# Altium schematic symbol library Transistors.SchLib: 1 symbol
Pins are listed as number, name and electrical type; pins without a type are passive.

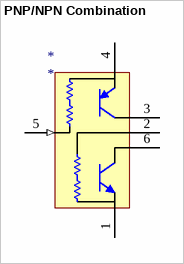
[diagram p0: symbol PNP/NPN Combination]

## PNP/NPN Combination
designator *
Level Shiftter Sch
pins: 1 (oe), 2 (oc), 3 (oc), 4 (oe), 5 (in), 6 (oc)